# Altium integrated library Linear Technology Power Management LDO Linear Regulators.IntLib: 2339 symbols (part 118 of 131)
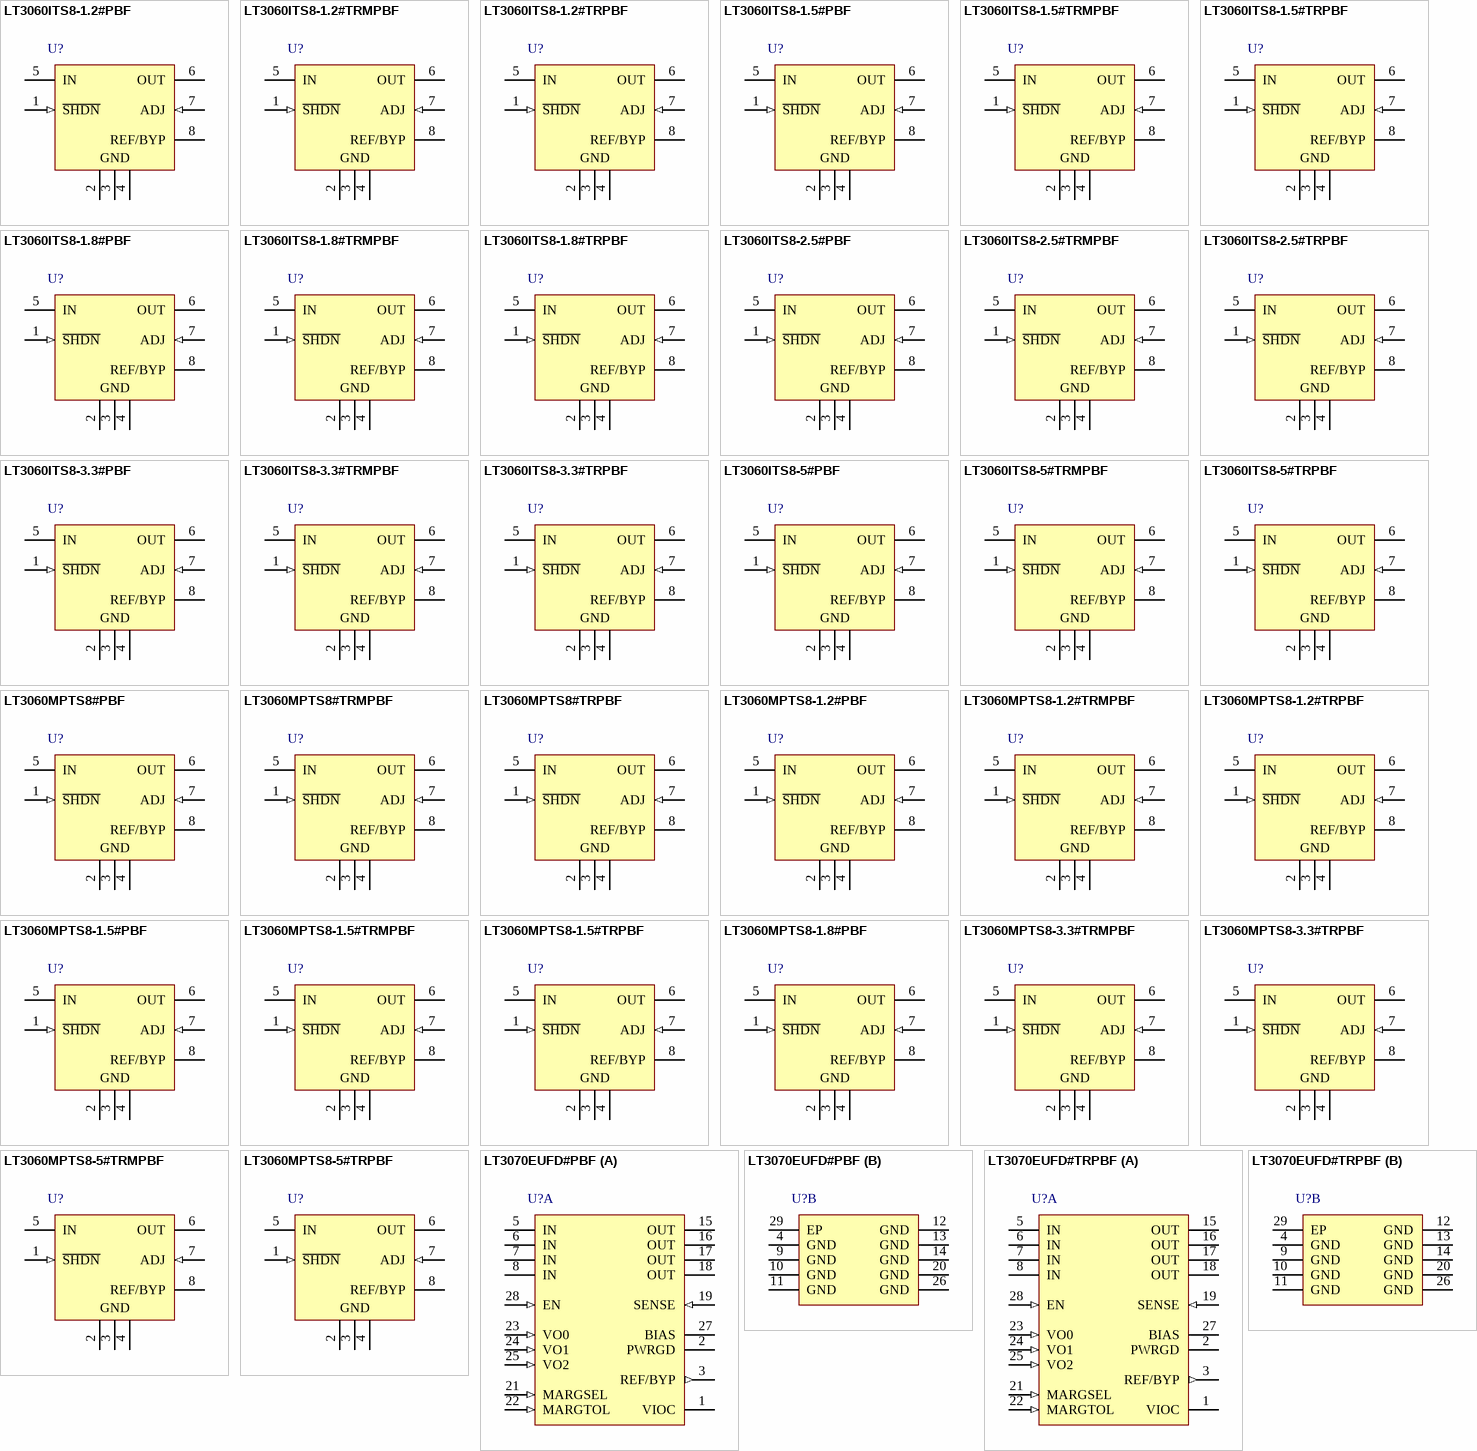
[diagram p186: symbols LT3060ITS8-1.2#PBF to LT3070EUFD#TRPBF]

## LT3070EUFD#PBF
designator U?
5 A, Low Noise, Programmable Output 85 mV Dropout Linear Regulator, 0.95 to 3 V Vin, Adjustable Vout, 28-pin QFN (UFD-28), -40 to 125 degC, Pb-Free; Manufacturer: Linear Technology; PartNumber: LT3070EUFD#PBF; Discrete Pass Element: no; Dropout Voltage(V): 0.085; Iout(mA): 5000; Isupply(mA): 1; Noise(uV): 25; Output Voltage: Adj; PSRR(dB): 72; Vin Max(V): 3; Vin Min(V): 0.95; Vout Max(V): 1.8; Vout Min(V): 0.8; DatasheetVersion: Rev. B; PackageVersion: Rev. B, 06/2010; PackageReference: UFD-28; PackageDescription: 28-Pin Plastic QFN, Body 5 x 4 mm, Pitch 0.5 mm; Supplier 1: Digi-Key; Supplier Part Number 1: LT3070EUFD#PBF-ND; Supplier 2: Farnell; Supplier Part Number 2: 1839227; Supplier 3: Newark; Supplier Part Number 3: 51R1535; Number of Outputs: 1; RoHS: TRUE; Mounting Technology: Surface Mount; Code_JEDEC: MO-220; ComponentLink1Description: Manufacturer URL; ComponentLink1URL: http://www.linear.com/; ComponentLink2Description: Datasheet; ComponentLink2URL: http://cds.linear.com/docs/en/datasheet/3070fb.pdf; ComponentLink3Description: Package Specification; ComponentLink3URL: http://cds.linear.com/docs/en/packaging/QFN_28_05-08-1712.pdf
footprint LT-UFD-28_N (QFN, 28-Leads, Body 5x4mm, Pitch 0.5mm, Thermal Pad 3.65x2.65mm, IPC Medium Density)
footprint LT-UFD-28_L (QFN, 28-Leads, Body 5x4mm, Pitch 0.5mm, Thermal Pad 3.65x2.65mm, IPC High Density)
footprint LT-UFD-28_M (QFN, 28-Leads, Body 5x4mm, Pitch 0.5mm, Thermal Pad 3.65x2.65mm, IPC Low Density)
part A pins: 1 VIOC (power) "Voltage for In-to-Out Control. The IC incorporates a unique tracking function to control a buck regulator powering the LT3070’s input. The VIOC pin is the output of this tracking function that drives the buck regulator t(See Datasheet)", 2 PWRGD (oc) "Power Good. The PWRGD pin is an open-drain NMOS output that actively pulls low if any one of these fault modes is detected: • VOUT is less than 90% of VOUT(NOMINAL) on the rising edge of VOUT . • VOUT drops below 85%(See Datasheet)", 3 REF/BYP (out) "Reference Filter. The pin is the output of the bandgap reference and has an impedance of approximately 19kohm. This pin must not be externally loaded. Bypassing the REF/BYP pin to GND with a 10nF capacitor decreases output (See Datasheet)", 5 IN (power) "Input Supply. These pins supply power to the high current pass transistor. Tie all IN pins together for proper performance. The LT3070 requires a bypass capacitor at IN to maintain stability and low input impedance over (See Datasheet)", 6 IN (power) "Input Supply. These pins supply power to the high current pass transistor. Tie all IN pins together for proper performance. The LT3070 requires a bypass capacitor at IN to maintain stability and low input impedance over (See Datasheet)", 7 IN (power) "Input Supply. These pins supply power to the high current pass transistor. Tie all IN pins together for proper performance. The LT3070 requires a bypass capacitor at IN to maintain stability and low input impedance over (See Datasheet)", 8 IN (power) "Input Supply. These pins supply power to the high current pass transistor. Tie all IN pins together for proper performance. The LT3070 requires a bypass capacitor at IN to maintain stability and low input impedance over (See Datasheet)", 15 OUT (power) "Output. These pins supply power to the load. Tie all OUT pins together for proper performance. A minimum output capacitance of 15uF is required for stability. LTC recommends low ESR, X5R or X7R dielectric ceramic capacitors (See Datasheet)", 16 OUT (power) "Output. These pins supply power to the load. Tie all OUT pins together for proper performance. A minimum output capacitance of 15uF is required for stability. LTC recommends low ESR, X5R or X7R dielectric ceramic capacitors (See Datasheet)", 17 OUT (power) "Output. These pins supply power to the load. Tie all OUT pins together for proper performance. A minimum output capacitance of 15uF is required for stability. LTC recommends low ESR, X5R or X7R dielectric ceramic capacitors (See Datasheet)", 18 OUT (power) "Output. These pins supply power to the load. Tie all OUT pins together for proper performance. A minimum output capacitance of 15uF is required for stability. LTC recommends low ESR, X5R or X7R dielectric ceramic capacitors (See Datasheet)", 19 SENSE (in) "Kelvin Sense for OUT . The SENSE pin is the inverting input to the error amplifier. Optimum regulation is obtained when the SENSE pin is connected to the OUT pins of the regulator. In critical applications, the resistance (See Datasheet)", 21 MARGSEL (in) "Margining Enable and Polarity Selection. This three-state pin determines both the polarity and the active state of the margining function. The logic low threshold is less than 250mV referenced to GND and enables negative (See Datasheet)", 22 MARGTOL (in) "Margining Tolerance. This three-state pin selects the absolute value of margining (1%, 3% or 5%) if enabled by the MARGSEL input. The logic low threshold is less than 250mV referenced to GND and enables either +/-1% change (See Datasheet)", 23 VO0 (in) "Output Voltage Select. These three-state pins combine to select a nominal output voltage from 0.8V to 1.8V in increments of 50mV. Output voltage is limited to 1.8V maximum by an internal override of VO1 when VO2 = high. The (See Datasheet)", 24 VO1 (in) "Output Voltage Select. These three-state pins combine to select a nominal output voltage from 0.8V to 1.8V in increments of 50mV. Output voltage is limited to 1.8V maximum by an internal override of VO1 when VO2 = high. The (See Datasheet)", 25 VO2 (in) "Output Voltage Select. These three-state pins combine to select a nominal output voltage from 0.8V to 1.8V in increments of 50mV. Output voltage is limited to 1.8V maximum by an internal override of VO1 when VO2 = high. The (See Datasheet)", 27 BIAS (power) "Bias Supply. This pin supplies current to the internal control circuitry and the output stage driving the pass transistor. The LT3070 requires a minimum 2.2uF bypass capacitor for stability and proper operation. To ensure (See Datasheet)", 28 EN (in) "Enable. This pin enables/disables the output device only. The internal reference and all support functions are active if VBIAS is above its UVLO threshold. Pulling EN low keeps the reference circuit active, but disables the (See Datasheet)"
part B pins: 4 GND (power) "Ground. The exposed pad (Pin 29) of the QFN package is an electrical connection to GND. To ensure proper electrical and thermal performance, solder Pin 29 to the PCB ground and tie to all GND pins of the package. These GND (See Datasheet)", 9 GND (power) "Ground. The exposed pad (Pin 29) of the QFN package is an electrical connection to GND. To ensure proper electrical and thermal performance, solder Pin 29 to the PCB ground and tie to all GND pins of the package. These GND (See Datasheet)", 10 GND (power) "Ground. The exposed pad (Pin 29) of the QFN package is an electrical connection to GND. To ensure proper electrical and thermal performance, solder Pin 29 to the PCB ground and tie to all GND pins of the package. These GND (See Datasheet)", 11 GND (power) "Ground. The exposed pad (Pin 29) of the QFN package is an electrical connection to GND. To ensure proper electrical and thermal performance, solder Pin 29 to the PCB ground and tie to all GND pins of the package. These GND (See Datasheet)", 12 GND (power) "Ground. The exposed pad (Pin 29) of the QFN package is an electrical connection to GND. To ensure proper electrical and thermal performance, solder Pin 29 to the PCB ground and tie to all GND pins of the package. These GND (See Datasheet)", 13 GND (power) "Ground. The exposed pad (Pin 29) of the QFN package is an electrical connection to GND. To ensure proper electrical and thermal performance, solder Pin 29 to the PCB ground and tie to all GND pins of the package. These GND (See Datasheet)", 14 GND (power) "Ground. The exposed pad (Pin 29) of the QFN package is an electrical connection to GND. To ensure proper electrical and thermal performance, solder Pin 29 to the PCB ground and tie to all GND pins of the package. These GND (See Datasheet)", 20 GND (power) "Ground. The exposed pad (Pin 29) of the QFN package is an electrical connection to GND. To ensure proper electrical and thermal performance, solder Pin 29 to the PCB ground and tie to all GND pins of the package. These GND (See Datasheet)", 26 GND (power) "Ground. The exposed pad (Pin 29) of the QFN package is an electrical connection to GND. To ensure proper electrical and thermal performance, solder Pin 29 to the PCB ground and tie to all GND pins of the package. These GND (See Datasheet)", 29 EP (power) "Ground. The exposed pad (Pin 29) of the QFN package is an electrical connection to GND. To ensure proper electrical and thermal performance, solder Pin 29 to the PCB ground and tie to all GND pins of the package. These GND (See Datasheet)"

## LT3070EUFD#TRPBF
designator U?
5 A, Low Noise, Programmable Output 85 mV Dropout Linear Regulator, 0.95 to 3 V Vin, Adjustable Vout, 28-pin QFN (UFD-28), -40 to 125 degC, Pb-Free, Tape and Reel; Manufacturer: Linear Technology; PartNumber: LT3070EUFD#TRPBF; Discrete Pass Element: no; Dropout Voltage(V): 0.085; Iout(mA): 5000; Isupply(mA): 1; Noise(uV): 25; Output Voltage: Adj; PSRR(dB): 72; Vin Max(V): 3; Vin Min(V): 0.95; Vout Max(V): 1.8; Vout Min(V): 0.8; DatasheetVersion: Rev. B; PackageVersion: Rev. B, 06/2010; PackageReference: UFD-28; PackageDescription: 28-Pin Plastic QFN, Body 5 x 4 mm, Pitch 0.5 mm; Supplier 1: Digi-Key; Supplier Part Number 1: LT3070EUFD#TRPBF-ND; Supplier 2: Newark; Supplier Part Number 2: 72R5794; Number of Outputs: 1; Packing: Tape and Reel; RoHS: TRUE; Mounting Technology: Surface Mount; Code_JEDEC: MO-220; ComponentLink1Description: Manufacturer URL; ComponentLink1URL: http://www.linear.com/; ComponentLink2Description: Datasheet; ComponentLink2URL: http://cds.linear.com/docs/en/datasheet/3070fb.pdf; ComponentLink3Description: Package Specification; ComponentLink3URL: http://cds.linear.com/docs/en/packaging/QFN_28_05-08-1712.pdf
footprint LT-UFD-28_N (QFN, 28-Leads, Body 5x4mm, Pitch 0.5mm, Thermal Pad 3.65x2.65mm, IPC Medium Density)
footprint LT-UFD-28_L (QFN, 28-Leads, Body 5x4mm, Pitch 0.5mm, Thermal Pad 3.65x2.65mm, IPC High Density)
footprint LT-UFD-28_M (QFN, 28-Leads, Body 5x4mm, Pitch 0.5mm, Thermal Pad 3.65x2.65mm, IPC Low Density)
part A pins: 1 VIOC (power) "Voltage for In-to-Out Control. The IC incorporates a unique tracking function to control a buck regulator powering the LT3070’s input. The VIOC pin is the output of this tracking function that drives the buck regulator t(See Datasheet)", 2 PWRGD (oc) "Power Good. The PWRGD pin is an open-drain NMOS output that actively pulls low if any one of these fault modes is detected: • VOUT is less than 90% of VOUT(NOMINAL) on the rising edge of VOUT . • VOUT drops below 85%(See Datasheet)", 3 REF/BYP (out) "Reference Filter. The pin is the output of the bandgap reference and has an impedance of approximately 19kohm. This pin must not be externally loaded. Bypassing the REF/BYP pin to GND with a 10nF capacitor decreases output (See Datasheet)", 5 IN (power) "Input Supply. These pins supply power to the high current pass transistor. Tie all IN pins together for proper performance. The LT3070 requires a bypass capacitor at IN to maintain stability and low input impedance over (See Datasheet)", 6 IN (power) "Input Supply. These pins supply power to the high current pass transistor. Tie all IN pins together for proper performance. The LT3070 requires a bypass capacitor at IN to maintain stability and low input impedance over (See Datasheet)", 7 IN (power) "Input Supply. These pins supply power to the high current pass transistor. Tie all IN pins together for proper performance. The LT3070 requires a bypass capacitor at IN to maintain stability and low input impedance over (See Datasheet)", 8 IN (power) "Input Supply. These pins supply power to the high current pass transistor. Tie all IN pins together for proper performance. The LT3070 requires a bypass capacitor at IN to maintain stability and low input impedance over (See Datasheet)", 15 OUT (power) "Output. These pins supply power to the load. Tie all OUT pins together for proper performance. A minimum output capacitance of 15uF is required for stability. LTC recommends low ESR, X5R or X7R dielectric ceramic capacitors (See Datasheet)", 16 OUT (power) "Output. These pins supply power to the load. Tie all OUT pins together for proper performance. A minimum output capacitance of 15uF is required for stability. LTC recommends low ESR, X5R or X7R dielectric ceramic capacitors (See Datasheet)", 17 OUT (power) "Output. These pins supply power to the load. Tie all OUT pins together for proper performance. A minimum output capacitance of 15uF is required for stability. LTC recommends low ESR, X5R or X7R dielectric ceramic capacitors (See Datasheet)", 18 OUT (power) "Output. These pins supply power to the load. Tie all OUT pins together for proper performance. A minimum output capacitance of 15uF is required for stability. LTC recommends low ESR, X5R or X7R dielectric ceramic capacitors (See Datasheet)", 19 SENSE (in) "Kelvin Sense for OUT . The SENSE pin is the inverting input to the error amplifier. Optimum regulation is obtained when the SENSE pin is connected to the OUT pins of the regulator. In critical applications, the resistance (See Datasheet)", 21 MARGSEL (in) "Margining Enable and Polarity Selection. This three-state pin determines both the polarity and the active state of the margining function. The logic low threshold is less than 250mV referenced to GND and enables negative (See Datasheet)", 22 MARGTOL (in) "Margining Tolerance. This three-state pin selects the absolute value of margining (1%, 3% or 5%) if enabled by the MARGSEL input. The logic low threshold is less than 250mV referenced to GND and enables either +/-1% change (See Datasheet)", 23 VO0 (in) "Output Voltage Select. These three-state pins combine to select a nominal output voltage from 0.8V to 1.8V in increments of 50mV. Output voltage is limited to 1.8V maximum by an internal override of VO1 when VO2 = high. The (See Datasheet)", 24 VO1 (in) "Output Voltage Select. These three-state pins combine to select a nominal output voltage from 0.8V to 1.8V in increments of 50mV. Output voltage is limited to 1.8V maximum by an internal override of VO1 when VO2 = high. The (See Datasheet)", 25 VO2 (in) "Output Voltage Select. These three-state pins combine to select a nominal output voltage from 0.8V to 1.8V in increments of 50mV. Output voltage is limited to 1.8V maximum by an internal override of VO1 when VO2 = high. The (See Datasheet)", 27 BIAS (power) "Bias Supply. This pin supplies current to the internal control circuitry and the output stage driving the pass transistor. The LT3070 requires a minimum 2.2uF bypass capacitor for stability and proper operation. To ensure (See Datasheet)", 28 EN (in) "Enable. This pin enables/disables the output device only. The internal reference and all support functions are active if VBIAS is above its UVLO threshold. Pulling EN low keeps the reference circuit active, but disables the (See Datasheet)"
part B pins: 4 GND (power) "Ground. The exposed pad (Pin 29) of the QFN package is an electrical connection to GND. To ensure proper electrical and thermal performance, solder Pin 29 to the PCB ground and tie to all GND pins of the package. These GND (See Datasheet)", 9 GND (power) "Ground. The exposed pad (Pin 29) of the QFN package is an electrical connection to GND. To ensure proper electrical and thermal performance, solder Pin 29 to the PCB ground and tie to all GND pins of the package. These GND (See Datasheet)", 10 GND (power) "Ground. The exposed pad (Pin 29) of the QFN package is an electrical connection to GND. To ensure proper electrical and thermal performance, solder Pin 29 to the PCB ground and tie to all GND pins of the package. These GND (See Datasheet)", 11 GND (power) "Ground. The exposed pad (Pin 29) of the QFN package is an electrical connection to GND. To ensure proper electrical and thermal performance, solder Pin 29 to the PCB ground and tie to all GND pins of the package. These GND (See Datasheet)", 12 GND (power) "Ground. The exposed pad (Pin 29) of the QFN package is an electrical connection to GND. To ensure proper electrical and thermal performance, solder Pin 29 to the PCB ground and tie to all GND pins of the package. These GND (See Datasheet)", 13 GND (power) "Ground. The exposed pad (Pin 29) of the QFN package is an electrical connection to GND. To ensure proper electrical and thermal performance, solder Pin 29 to the PCB ground and tie to all GND pins of the package. These GND (See Datasheet)", 14 GND (power) "Ground. The exposed pad (Pin 29) of the QFN package is an electrical connection to GND. To ensure proper electrical and thermal performance, solder Pin 29 to the PCB ground and tie to all GND pins of the package. These GND (See Datasheet)", 20 GND (power) "Ground. The exposed pad (Pin 29) of the QFN package is an electrical connection to GND. To ensure proper electrical and thermal performance, solder Pin 29 to the PCB ground and tie to all GND pins of the package. These GND (See Datasheet)", 26 GND (power) "Ground. The exposed pad (Pin 29) of the QFN package is an electrical connection to GND. To ensure proper electrical and thermal performance, solder Pin 29 to the PCB ground and tie to all GND pins of the package. These GND (See Datasheet)", 29 EP (power) "Ground. The exposed pad (Pin 29) of the QFN package is an electrical connection to GND. To ensure proper electrical and thermal performance, solder Pin 29 to the PCB ground and tie to all GND pins of the package. These GND (See Datasheet)"

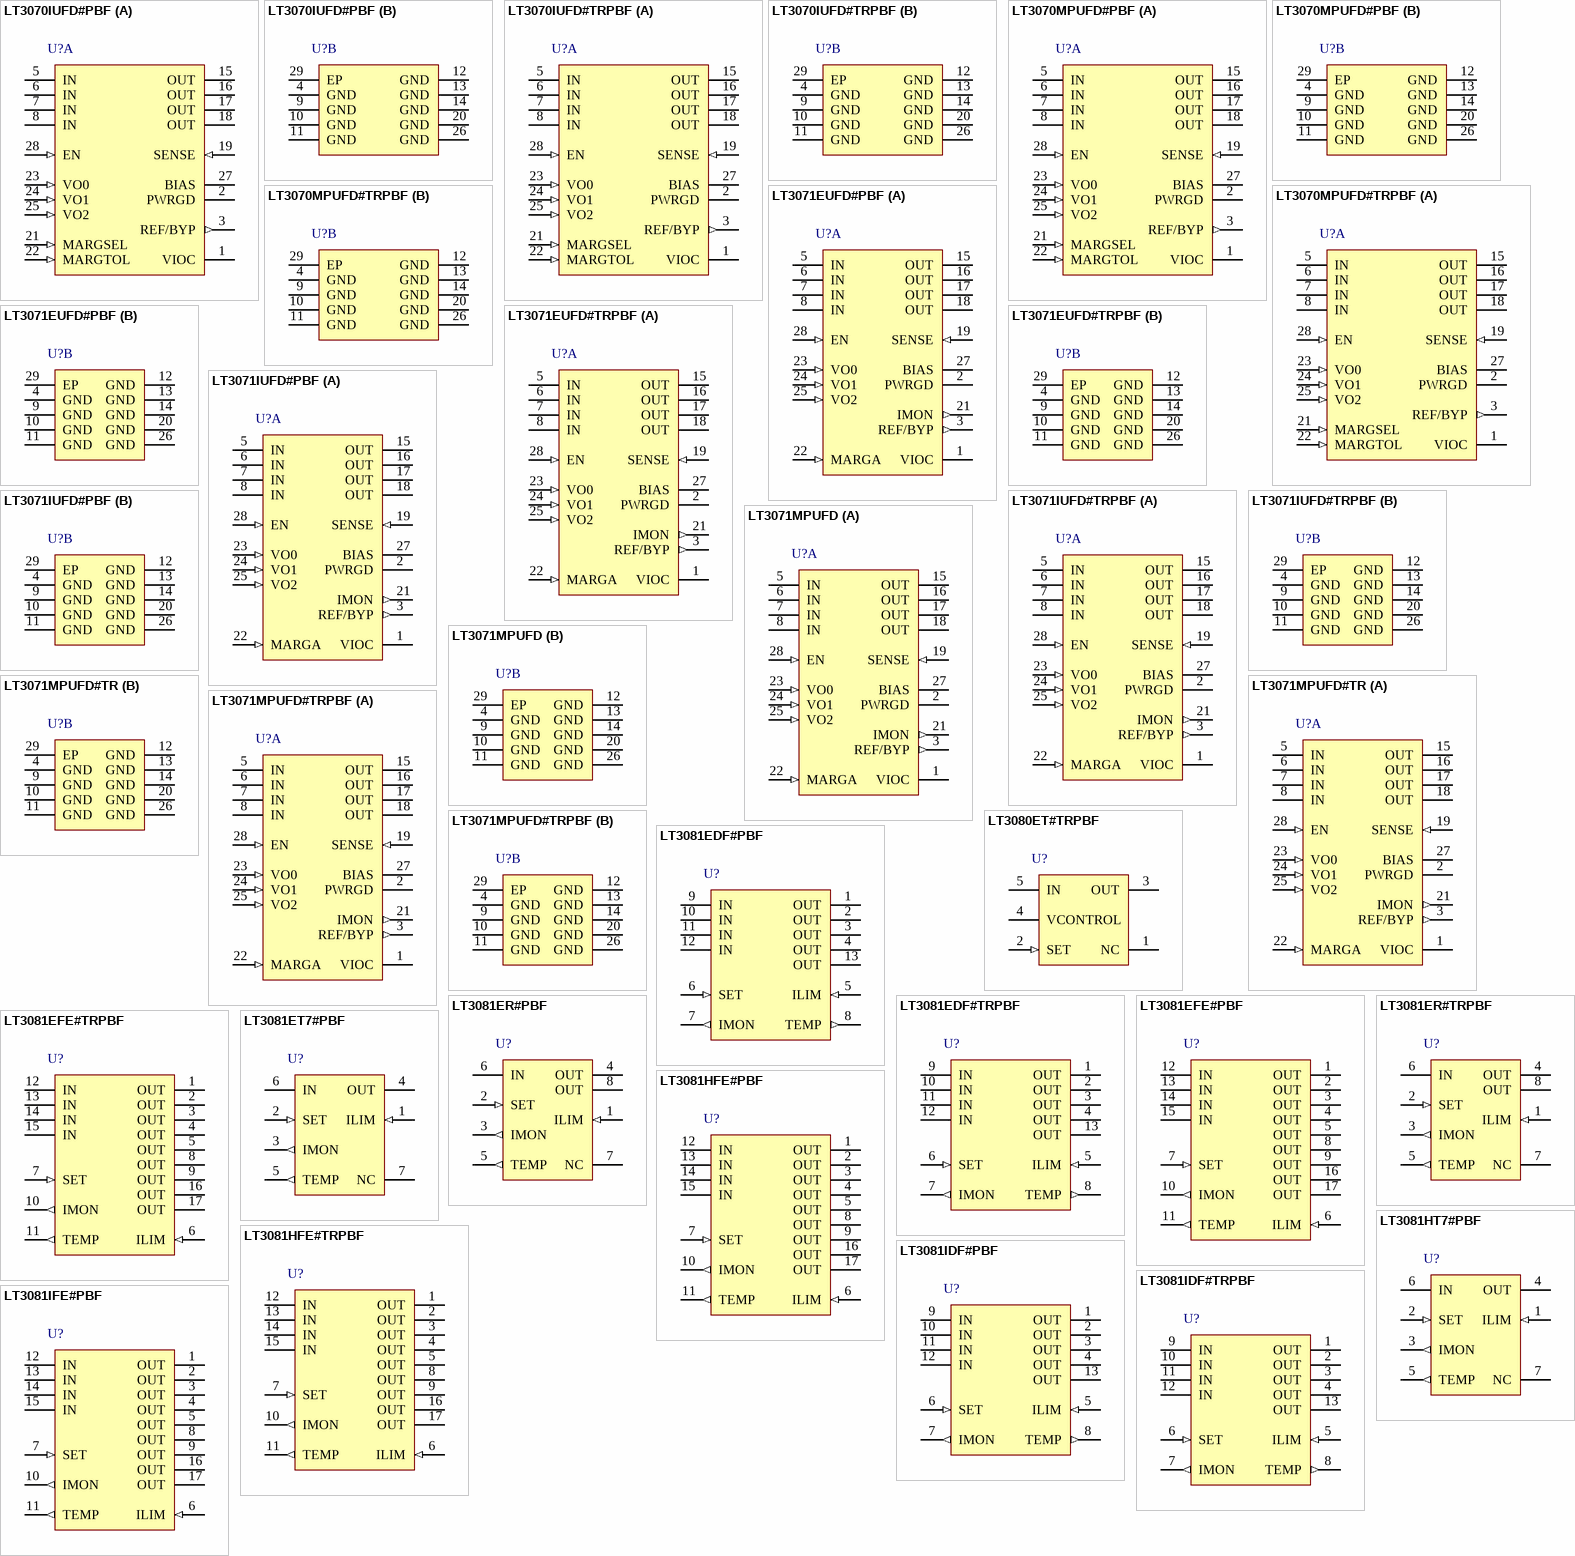
[diagram p64: symbols LT3070IUFD#PBF to LT3081IFE#PBF]

## LT3070IUFD#PBF
designator U?
5 A, Low Noise, Programmable Output 85 mV Dropout Linear Regulator, 0.95 to 3 V Vin, Adjustable Vout, 28-pin QFN (UFD-28), -40 to 125 degC, Pb-Free; Manufacturer: Linear Technology; PartNumber: LT3070IUFD#PBF; Discrete Pass Element: no; Dropout Voltage(V): 0.085; Iout(mA): 5000; Isupply(mA): 1; Noise(uV): 25; Output Voltage: Adj; PSRR(dB): 72; Vin Max(V): 3; Vin Min(V): 0.95; Vout Max(V): 1.8; Vout Min(V): 0.8; DatasheetVersion: Rev. B; PackageVersion: Rev. B, 06/2010; PackageReference: UFD-28; PackageDescription: 28-Pin Plastic QFN, Body 5 x 4 mm, Pitch 0.5 mm; Supplier 1: Digi-Key; Supplier Part Number 1: LT3070IUFD#PBF-ND; Supplier 2: Farnell; Supplier Part Number 2: 2295268; Supplier 3: Newark; Supplier Part Number 3: 72R5795; Number of Outputs: 1; RoHS: TRUE; Mounting Technology: Surface Mount; Code_JEDEC: MO-220; ComponentLink1Description: Manufacturer URL; ComponentLink1URL: http://www.linear.com/; ComponentLink2Description: Datasheet; ComponentLink2URL: http://cds.linear.com/docs/en/datasheet/3070fb.pdf; ComponentLink3Description: Package Specification; ComponentLink3URL: http://cds.linear.com/docs/en/packaging/QFN_28_05-08-1712.pdf
footprint LT-UFD-28_N (QFN, 28-Leads, Body 5x4mm, Pitch 0.5mm, Thermal Pad 3.65x2.65mm, IPC Medium Density)
footprint LT-UFD-28_L (QFN, 28-Leads, Body 5x4mm, Pitch 0.5mm, Thermal Pad 3.65x2.65mm, IPC High Density)
footprint LT-UFD-28_M (QFN, 28-Leads, Body 5x4mm, Pitch 0.5mm, Thermal Pad 3.65x2.65mm, IPC Low Density)
part A pins: 1 VIOC (power) "Voltage for In-to-Out Control. The IC incorporates a unique tracking function to control a buck regulator powering the LT3070’s input. The VIOC pin is the output of this tracking function that drives the buck regulator t(See Datasheet)", 2 PWRGD (oc) "Power Good. The PWRGD pin is an open-drain NMOS output that actively pulls low if any one of these fault modes is detected: • VOUT is less than 90% of VOUT(NOMINAL) on the rising edge of VOUT . • VOUT drops below 85%(See Datasheet)", 3 REF/BYP (out) "Reference Filter. The pin is the output of the bandgap reference and has an impedance of approximately 19kohm. This pin must not be externally loaded. Bypassing the REF/BYP pin to GND with a 10nF capacitor decreases output (See Datasheet)", 5 IN (power) "Input Supply. These pins supply power to the high current pass transistor. Tie all IN pins together for proper performance. The LT3070 requires a bypass capacitor at IN to maintain stability and low input impedance over (See Datasheet)", 6 IN (power) "Input Supply. These pins supply power to the high current pass transistor. Tie all IN pins together for proper performance. The LT3070 requires a bypass capacitor at IN to maintain stability and low input impedance over (See Datasheet)", 7 IN (power) "Input Supply. These pins supply power to the high current pass transistor. Tie all IN pins together for proper performance. The LT3070 requires a bypass capacitor at IN to maintain stability and low input impedance over (See Datasheet)", 8 IN (power) "Input Supply. These pins supply power to the high current pass transistor. Tie all IN pins together for proper performance. The LT3070 requires a bypass capacitor at IN to maintain stability and low input impedance over (See Datasheet)", 15 OUT (power) "Output. These pins supply power to the load. Tie all OUT pins together for proper performance. A minimum output capacitance of 15uF is required for stability. LTC recommends low ESR, X5R or X7R dielectric ceramic capacitors (See Datasheet)", 16 OUT (power) "Output. These pins supply power to the load. Tie all OUT pins together for proper performance. A minimum output capacitance of 15uF is required for stability. LTC recommends low ESR, X5R or X7R dielectric ceramic capacitors (See Datasheet)", 17 OUT (power) "Output. These pins supply power to the load. Tie all OUT pins together for proper performance. A minimum output capacitance of 15uF is required for stability. LTC recommends low ESR, X5R or X7R dielectric ceramic capacitors (See Datasheet)", 18 OUT (power) "Output. These pins supply power to the load. Tie all OUT pins together for proper performance. A minimum output capacitance of 15uF is required for stability. LTC recommends low ESR, X5R or X7R dielectric ceramic capacitors (See Datasheet)", 19 SENSE (in) "Kelvin Sense for OUT . The SENSE pin is the inverting input to the error amplifier. Optimum regulation is obtained when the SENSE pin is connected to the OUT pins of the regulator. In critical applications, the resistance (See Datasheet)", 21 MARGSEL (in) "Margining Enable and Polarity Selection. This three-state pin determines both the polarity and the active state of the margining function. The logic low threshold is less than 250mV referenced to GND and enables negative (See Datasheet)", 22 MARGTOL (in) "Margining Tolerance. This three-state pin selects the absolute value of margining (1%, 3% or 5%) if enabled by the MARGSEL input. The logic low threshold is less than 250mV referenced to GND and enables either +/-1% change (See Datasheet)", 23 VO0 (in) "Output Voltage Select. These three-state pins combine to select a nominal output voltage from 0.8V to 1.8V in increments of 50mV. Output voltage is limited to 1.8V maximum by an internal override of VO1 when VO2 = high. The (See Datasheet)", 24 VO1 (in) "Output Voltage Select. These three-state pins combine to select a nominal output voltage from 0.8V to 1.8V in increments of 50mV. Output voltage is limited to 1.8V maximum by an internal override of VO1 when VO2 = high. The (See Datasheet)", 25 VO2 (in) "Output Voltage Select. These three-state pins combine to select a nominal output voltage from 0.8V to 1.8V in increments of 50mV. Output voltage is limited to 1.8V maximum by an internal override of VO1 when VO2 = high. The (See Datasheet)", 27 BIAS (power) "Bias Supply. This pin supplies current to the internal control circuitry and the output stage driving the pass transistor. The LT3070 requires a minimum 2.2uF bypass capacitor for stability and proper operation. To ensure (See Datasheet)", 28 EN (in) "Enable. This pin enables/disables the output device only. The internal reference and all support functions are active if VBIAS is above its UVLO threshold. Pulling EN low keeps the reference circuit active, but disables the (See Datasheet)"
part B pins: 4 GND (power) "Ground. The exposed pad (Pin 29) of the QFN package is an electrical connection to GND. To ensure proper electrical and thermal performance, solder Pin 29 to the PCB ground and tie to all GND pins of the package. These GND (See Datasheet)", 9 GND (power) "Ground. The exposed pad (Pin 29) of the QFN package is an electrical connection to GND. To ensure proper electrical and thermal performance, solder Pin 29 to the PCB ground and tie to all GND pins of the package. These GND (See Datasheet)", 10 GND (power) "Ground. The exposed pad (Pin 29) of the QFN package is an electrical connection to GND. To ensure proper electrical and thermal performance, solder Pin 29 to the PCB ground and tie to all GND pins of the package. These GND (See Datasheet)", 11 GND (power) "Ground. The exposed pad (Pin 29) of the QFN package is an electrical connection to GND. To ensure proper electrical and thermal performance, solder Pin 29 to the PCB ground and tie to all GND pins of the package. These GND (See Datasheet)", 12 GND (power) "Ground. The exposed pad (Pin 29) of the QFN package is an electrical connection to GND. To ensure proper electrical and thermal performance, solder Pin 29 to the PCB ground and tie to all GND pins of the package. These GND (See Datasheet)", 13 GND (power) "Ground. The exposed pad (Pin 29) of the QFN package is an electrical connection to GND. To ensure proper electrical and thermal performance, solder Pin 29 to the PCB ground and tie to all GND pins of the package. These GND (See Datasheet)", 14 GND (power) "Ground. The exposed pad (Pin 29) of the QFN package is an electrical connection to GND. To ensure proper electrical and thermal performance, solder Pin 29 to the PCB ground and tie to all GND pins of the package. These GND (See Datasheet)", 20 GND (power) "Ground. The exposed pad (Pin 29) of the QFN package is an electrical connection to GND. To ensure proper electrical and thermal performance, solder Pin 29 to the PCB ground and tie to all GND pins of the package. These GND (See Datasheet)", 26 GND (power) "Ground. The exposed pad (Pin 29) of the QFN package is an electrical connection to GND. To ensure proper electrical and thermal performance, solder Pin 29 to the PCB ground and tie to all GND pins of the package. These GND (See Datasheet)", 29 EP (power) "Ground. The exposed pad (Pin 29) of the QFN package is an electrical connection to GND. To ensure proper electrical and thermal performance, solder Pin 29 to the PCB ground and tie to all GND pins of the package. These GND (See Datasheet)"

## LT3070IUFD#TRPBF
designator U?
5 A, Low Noise, Programmable Output 85 mV Dropout Linear Regulator, 0.95 to 3 V Vin, Adjustable Vout, 28-pin QFN (UFD-28), -40 to 125 degC, Pb-Free, Tape and Reel; Manufacturer: Linear Technology; PartNumber: LT3070IUFD#TRPBF; Discrete Pass Element: no; Dropout Voltage(V): 0.085; Iout(mA): 5000; Isupply(mA): 1; Noise(uV): 25; Output Voltage: Adj; PSRR(dB): 72; Vin Max(V): 3; Vin Min(V): 0.95; Vout Max(V): 1.8; Vout Min(V): 0.8; DatasheetVersion: Rev. B; PackageVersion: Rev. B, 06/2010; PackageReference: UFD-28; PackageDescription: 28-Pin Plastic QFN, Body 5 x 4 mm, Pitch 0.5 mm; Supplier 1: Digi-Key; Supplier Part Number 1: LT3070IUFD#TRPBF-ND; Supplier 2: Newark; Supplier Part Number 2: 72R5796; Number of Outputs: 1; Packing: Tape and Reel; RoHS: TRUE; Mounting Technology: Surface Mount; Code_JEDEC: MO-220; ComponentLink1Description: Manufacturer URL; ComponentLink1URL: http://www.linear.com/; ComponentLink2Description: Datasheet; ComponentLink2URL: http://cds.linear.com/docs/en/datasheet/3070fb.pdf; ComponentLink3Description: Package Specification; ComponentLink3URL: http://cds.linear.com/docs/en/packaging/QFN_28_05-08-1712.pdf
footprint LT-UFD-28_N (QFN, 28-Leads, Body 5x4mm, Pitch 0.5mm, Thermal Pad 3.65x2.65mm, IPC Medium Density)
footprint LT-UFD-28_L (QFN, 28-Leads, Body 5x4mm, Pitch 0.5mm, Thermal Pad 3.65x2.65mm, IPC High Density)
footprint LT-UFD-28_M (QFN, 28-Leads, Body 5x4mm, Pitch 0.5mm, Thermal Pad 3.65x2.65mm, IPC Low Density)
part A pins: 1 VIOC (power) "Voltage for In-to-Out Control. The IC incorporates a unique tracking function to control a buck regulator powering the LT3070’s input. The VIOC pin is the output of this tracking function that drives the buck regulator t(See Datasheet)", 2 PWRGD (oc) "Power Good. The PWRGD pin is an open-drain NMOS output that actively pulls low if any one of these fault modes is detected: • VOUT is less than 90% of VOUT(NOMINAL) on the rising edge of VOUT . • VOUT drops below 85%(See Datasheet)", 3 REF/BYP (out) "Reference Filter. The pin is the output of the bandgap reference and has an impedance of approximately 19kohm. This pin must not be externally loaded. Bypassing the REF/BYP pin to GND with a 10nF capacitor decreases output (See Datasheet)", 5 IN (power) "Input Supply. These pins supply power to the high current pass transistor. Tie all IN pins together for proper performance. The LT3070 requires a bypass capacitor at IN to maintain stability and low input impedance over (See Datasheet)", 6 IN (power) "Input Supply. These pins supply power to the high current pass transistor. Tie all IN pins together for proper performance. The LT3070 requires a bypass capacitor at IN to maintain stability and low input impedance over (See Datasheet)", 7 IN (power) "Input Supply. These pins supply power to the high current pass transistor. Tie all IN pins together for proper performance. The LT3070 requires a bypass capacitor at IN to maintain stability and low input impedance over (See Datasheet)", 8 IN (power) "Input Supply. These pins supply power to the high current pass transistor. Tie all IN pins together for proper performance. The LT3070 requires a bypass capacitor at IN to maintain stability and low input impedance over (See Datasheet)", 15 OUT (power) "Output. These pins supply power to the load. Tie all OUT pins together for proper performance. A minimum output capacitance of 15uF is required for stability. LTC recommends low ESR, X5R or X7R dielectric ceramic capacitors (See Datasheet)", 16 OUT (power) "Output. These pins supply power to the load. Tie all OUT pins together for proper performance. A minimum output capacitance of 15uF is required for stability. LTC recommends low ESR, X5R or X7R dielectric ceramic capacitors (See Datasheet)", 17 OUT (power) "Output. These pins supply power to the load. Tie all OUT pins together for proper performance. A minimum output capacitance of 15uF is required for stability. LTC recommends low ESR, X5R or X7R dielectric ceramic capacitors (See Datasheet)", 18 OUT (power) "Output. These pins supply power to the load. Tie all OUT pins together for proper performance. A minimum output capacitance of 15uF is required for stability. LTC recommends low ESR, X5R or X7R dielectric ceramic capacitors (See Datasheet)", 19 SENSE (in) "Kelvin Sense for OUT . The SENSE pin is the inverting input to the error amplifier. Optimum regulation is obtained when the SENSE pin is connected to the OUT pins of the regulator. In critical applications, the resistance (See Datasheet)", 21 MARGSEL (in) "Margining Enable and Polarity Selection. This three-state pin determines both the polarity and the active state of the margining function. The logic low threshold is less than 250mV referenced to GND and enables negative (See Datasheet)", 22 MARGTOL (in) "Margining Tolerance. This three-state pin selects the absolute value of margining (1%, 3% or 5%) if enabled by the MARGSEL input. The logic low threshold is less than 250mV referenced to GND and enables either +/-1% change (See Datasheet)", 23 VO0 (in) "Output Voltage Select. These three-state pins combine to select a nominal output voltage from 0.8V to 1.8V in increments of 50mV. Output voltage is limited to 1.8V maximum by an internal override of VO1 when VO2 = high. The (See Datasheet)", 24 VO1 (in) "Output Voltage Select. These three-state pins combine to select a nominal output voltage from 0.8V to 1.8V in increments of 50mV. Output voltage is limited to 1.8V maximum by an internal override of VO1 when VO2 = high. The (See Datasheet)", 25 VO2 (in) "Output Voltage Select. These three-state pins combine to select a nominal output voltage from 0.8V to 1.8V in increments of 50mV. Output voltage is limited to 1.8V maximum by an internal override of VO1 when VO2 = high. The (See Datasheet)", 27 BIAS (power) "Bias Supply. This pin supplies current to the internal control circuitry and the output stage driving the pass transistor. The LT3070 requires a minimum 2.2uF bypass capacitor for stability and proper operation. To ensure (See Datasheet)", 28 EN (in) "Enable. This pin enables/disables the output device only. The internal reference and all support functions are active if VBIAS is above its UVLO threshold. Pulling EN low keeps the reference circuit active, but disables the (See Datasheet)"
part B pins: 4 GND (power) "Ground. The exposed pad (Pin 29) of the QFN package is an electrical connection to GND. To ensure proper electrical and thermal performance, solder Pin 29 to the PCB ground and tie to all GND pins of the package. These GND (See Datasheet)", 9 GND (power) "Ground. The exposed pad (Pin 29) of the QFN package is an electrical connection to GND. To ensure proper electrical and thermal performance, solder Pin 29 to the PCB ground and tie to all GND pins of the package. These GND (See Datasheet)", 10 GND (power) "Ground. The exposed pad (Pin 29) of the QFN package is an electrical connection to GND. To ensure proper electrical and thermal performance, solder Pin 29 to the PCB ground and tie to all GND pins of the package. These GND (See Datasheet)", 11 GND (power) "Ground. The exposed pad (Pin 29) of the QFN package is an electrical connection to GND. To ensure proper electrical and thermal performance, solder Pin 29 to the PCB ground and tie to all GND pins of the package. These GND (See Datasheet)", 12 GND (power) "Ground. The exposed pad (Pin 29) of the QFN package is an electrical connection to GND. To ensure proper electrical and thermal performance, solder Pin 29 to the PCB ground and tie to all GND pins of the package. These GND (See Datasheet)", 13 GND (power) "Ground. The exposed pad (Pin 29) of the QFN package is an electrical connection to GND. To ensure proper electrical and thermal performance, solder Pin 29 to the PCB ground and tie to all GND pins of the package. These GND (See Datasheet)", 14 GND (power) "Ground. The exposed pad (Pin 29) of the QFN package is an electrical connection to GND. To ensure proper electrical and thermal performance, solder Pin 29 to the PCB ground and tie to all GND pins of the package. These GND (See Datasheet)", 20 GND (power) "Ground. The exposed pad (Pin 29) of the QFN package is an electrical connection to GND. To ensure proper electrical and thermal performance, solder Pin 29 to the PCB ground and tie to all GND pins of the package. These GND (See Datasheet)", 26 GND (power) "Ground. The exposed pad (Pin 29) of the QFN package is an electrical connection to GND. To ensure proper electrical and thermal performance, solder Pin 29 to the PCB ground and tie to all GND pins of the package. These GND (See Datasheet)", 29 EP (power) "Ground. The exposed pad (Pin 29) of the QFN package is an electrical connection to GND. To ensure proper electrical and thermal performance, solder Pin 29 to the PCB ground and tie to all GND pins of the package. These GND (See Datasheet)"

## LT3070MPUFD#PBF
designator U?
5 A, Low Noise, Programmable Output 85 mV Dropout Linear Regulator, 0.95 to 3 V Vin, Adjustable Vout, 28-pin QFN (UFD-28), -55 to 125 degC, Pb-Free; Manufacturer: Linear Technology; PartNumber: LT3070MPUFD#PBF; Discrete Pass Element: no; Dropout Voltage(V): 0.085; Iout(mA): 5000; Isupply(mA): 1; Noise(uV): 25; Output Voltage: Adj; PSRR(dB): 72; Vin Max(V): 3; Vin Min(V): 0.95; Vout Max(V): 1.8; Vout Min(V): 0.8; DatasheetVersion: Rev. B; PackageVersion: Rev. B, 06/2010; PackageReference: UFD-28; PackageDescription: 28-Pin Plastic QFN, Body 5 x 4 mm, Pitch 0.5 mm; Supplier 1: Digi-Key; Supplier Part Number 1: LT3070MPUFD#PBF-ND; Supplier 2: Farnell; Supplier Part Number 2: 2295269; Number of Outputs: 1; RoHS: TRUE; Mounting Technology: Surface Mount; Code_JEDEC: MO-220; ComponentLink1Description: Manufacturer URL; ComponentLink1URL: http://www.linear.com/; ComponentLink2Description: Datasheet; ComponentLink2URL: http://cds.linear.com/docs/en/datasheet/3070fb.pdf; ComponentLink3Description: Package Specification; ComponentLink3URL: http://cds.linear.com/docs/en/packaging/QFN_28_05-08-1712.pdf
footprint LT-UFD-28_N (QFN, 28-Leads, Body 5x4mm, Pitch 0.5mm, Thermal Pad 3.65x2.65mm, IPC Medium Density)
footprint LT-UFD-28_L (QFN, 28-Leads, Body 5x4mm, Pitch 0.5mm, Thermal Pad 3.65x2.65mm, IPC High Density)
footprint LT-UFD-28_M (QFN, 28-Leads, Body 5x4mm, Pitch 0.5mm, Thermal Pad 3.65x2.65mm, IPC Low Density)
part A pins: 1 VIOC (power) "Voltage for In-to-Out Control. The IC incorporates a unique tracking function to control a buck regulator powering the LT3070’s input. The VIOC pin is the output of this tracking function that drives the buck regulator t(See Datasheet)", 2 PWRGD (oc) "Power Good. The PWRGD pin is an open-drain NMOS output that actively pulls low if any one of these fault modes is detected: • VOUT is less than 90% of VOUT(NOMINAL) on the rising edge of VOUT . • VOUT drops below 85%(See Datasheet)", 3 REF/BYP (out) "Reference Filter. The pin is the output of the bandgap reference and has an impedance of approximately 19kohm. This pin must not be externally loaded. Bypassing the REF/BYP pin to GND with a 10nF capacitor decreases output (See Datasheet)", 5 IN (power) "Input Supply. These pins supply power to the high current pass transistor. Tie all IN pins together for proper performance. The LT3070 requires a bypass capacitor at IN to maintain stability and low input impedance over (See Datasheet)", 6 IN (power) "Input Supply. These pins supply power to the high current pass transistor. Tie all IN pins together for proper performance. The LT3070 requires a bypass capacitor at IN to maintain stability and low input impedance over (See Datasheet)", 7 IN (power) "Input Supply. These pins supply power to the high current pass transistor. Tie all IN pins together for proper performance. The LT3070 requires a bypass capacitor at IN to maintain stability and low input impedance over (See Datasheet)", 8 IN (power) "Input Supply. These pins supply power to the high current pass transistor. Tie all IN pins together for proper performance. The LT3070 requires a bypass capacitor at IN to maintain stability and low input impedance over (See Datasheet)", 15 OUT (power) "Output. These pins supply power to the load. Tie all OUT pins together for proper performance. A minimum output capacitance of 15uF is required for stability. LTC recommends low ESR, X5R or X7R dielectric ceramic capacitors (See Datasheet)", 16 OUT (power) "Output. These pins supply power to the load. Tie all OUT pins together for proper performance. A minimum output capacitance of 15uF is required for stability. LTC recommends low ESR, X5R or X7R dielectric ceramic capacitors (See Datasheet)", 17 OUT (power) "Output. These pins supply power to the load. Tie all OUT pins together for proper performance. A minimum output capacitance of 15uF is required for stability. LTC recommends low ESR, X5R or X7R dielectric ceramic capacitors (See Datasheet)", 18 OUT (power) "Output. These pins supply power to the load. Tie all OUT pins together for proper performance. A minimum output capacitance of 15uF is required for stability. LTC recommends low ESR, X5R or X7R dielectric ceramic capacitors (See Datasheet)", 19 SENSE (in) "Kelvin Sense for OUT . The SENSE pin is the inverting input to the error amplifier. Optimum regulation is obtained when the SENSE pin is connected to the OUT pins of the regulator. In critical applications, the resistance (See Datasheet)", 21 MARGSEL (in) "Margining Enable and Polarity Selection. This three-state pin determines both the polarity and the active state of the margining function. The logic low threshold is less than 250mV referenced to GND and enables negative (See Datasheet)", 22 MARGTOL (in) "Margining Tolerance. This three-state pin selects the absolute value of margining (1%, 3% or 5%) if enabled by the MARGSEL input. The logic low threshold is less than 250mV referenced to GND and enables either +/-1% change (See Datasheet)", 23 VO0 (in) "Output Voltage Select. These three-state pins combine to select a nominal output voltage from 0.8V to 1.8V in increments of 50mV. Output voltage is limited to 1.8V maximum by an internal override of VO1 when VO2 = high. The (See Datasheet)", 24 VO1 (in) "Output Voltage Select. These three-state pins combine to select a nominal output voltage from 0.8V to 1.8V in increments of 50mV. Output voltage is limited to 1.8V maximum by an internal override of VO1 when VO2 = high. The (See Datasheet)", 25 VO2 (in) "Output Voltage Select. These three-state pins combine to select a nominal output voltage from 0.8V to 1.8V in increments of 50mV. Output voltage is limited to 1.8V maximum by an internal override of VO1 when VO2 = high. The (See Datasheet)", 27 BIAS (power) "Bias Supply. This pin supplies current to the internal control circuitry and the output stage driving the pass transistor. The LT3070 requires a minimum 2.2uF bypass capacitor for stability and proper operation. To ensure (See Datasheet)", 28 EN (in) "Enable. This pin enables/disables the output device only. The internal reference and all support functions are active if VBIAS is above its UVLO threshold. Pulling EN low keeps the reference circuit active, but disables the (See Datasheet)"
part B pins: 4 GND (power) "Ground. The exposed pad (Pin 29) of the QFN package is an electrical connection to GND. To ensure proper electrical and thermal performance, solder Pin 29 to the PCB ground and tie to all GND pins of the package. These GND (See Datasheet)", 9 GND (power) "Ground. The exposed pad (Pin 29) of the QFN package is an electrical connection to GND. To ensure proper electrical and thermal performance, solder Pin 29 to the PCB ground and tie to all GND pins of the package. These GND (See Datasheet)", 10 GND (power) "Ground. The exposed pad (Pin 29) of the QFN package is an electrical connection to GND. To ensure proper electrical and thermal performance, solder Pin 29 to the PCB ground and tie to all GND pins of the package. These GND (See Datasheet)", 11 GND (power) "Ground. The exposed pad (Pin 29) of the QFN package is an electrical connection to GND. To ensure proper electrical and thermal performance, solder Pin 29 to the PCB ground and tie to all GND pins of the package. These GND (See Datasheet)", 12 GND (power) "Ground. The exposed pad (Pin 29) of the QFN package is an electrical connection to GND. To ensure proper electrical and thermal performance, solder Pin 29 to the PCB ground and tie to all GND pins of the package. These GND (See Datasheet)", 13 GND (power) "Ground. The exposed pad (Pin 29) of the QFN package is an electrical connection to GND. To ensure proper electrical and thermal performance, solder Pin 29 to the PCB ground and tie to all GND pins of the package. These GND (See Datasheet)", 14 GND (power) "Ground. The exposed pad (Pin 29) of the QFN package is an electrical connection to GND. To ensure proper electrical and thermal performance, solder Pin 29 to the PCB ground and tie to all GND pins of the package. These GND (See Datasheet)", 20 GND (power) "Ground. The exposed pad (Pin 29) of the QFN package is an electrical connection to GND. To ensure proper electrical and thermal performance, solder Pin 29 to the PCB ground and tie to all GND pins of the package. These GND (See Datasheet)", 26 GND (power) "Ground. The exposed pad (Pin 29) of the QFN package is an electrical connection to GND. To ensure proper electrical and thermal performance, solder Pin 29 to the PCB ground and tie to all GND pins of the package. These GND (See Datasheet)", 29 EP (power) "Ground. The exposed pad (Pin 29) of the QFN package is an electrical connection to GND. To ensure proper electrical and thermal performance, solder Pin 29 to the PCB ground and tie to all GND pins of the package. These GND (See Datasheet)"